# Altium footprint library Linear_Voltage_Regulator.PcbLib: 5 footprints
Each footprint in its own frame and in the unit in brackets; x right, y up, seen from the top. Pads: shape width x height; smd on the part's side, far side on the other; paste and mask are expansions set on the pad; w line width, h text height; cw(c..) or ccw(c..) is an arc to the next point about the centre after c.
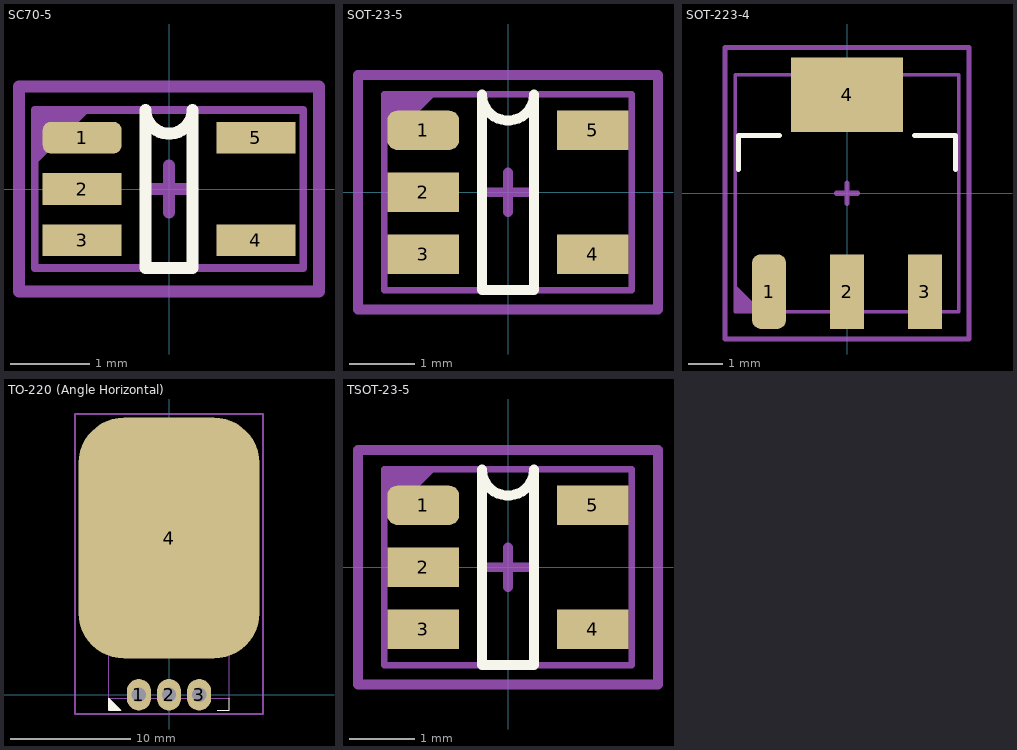
[diagram p0: the footprints below, top view; thin cyan lines are the x and y axes]

## SC70-5 [mm]
pads (5):
  rrect50% 1x0.4 smd: 1(-1.1,0.65)
  rect 1x0.4 smd: 2(-1.1,0) 3(-1.1,-0.65) 4(1.1,-0.65) 5(1.1,0.65)
Top Overlay:
  lines w0.153: -0.3,-1 -0.3,1 ccw(c0,1) 0.3,1 0.3,-1 -0.3,-1
Top Assembly:
  region: -1.7,1 -1.7,0.3 -1,1
  lines w0.1: -1.7,-1 -1.7,1 1.7,1 1.7,-1 -1.7,-1
  text "'.Designator'" at -4.532,-0.333 h0.8
Top Courtyard:
  lines w0.153: -0.3,0 0.3,0 ; 0,-0.3 0,0.3 ; -1.9,-1.3 -1.9,1.3 1.9,1.3 1.9,-1.3 -1.9,-1.3
3D body "User Library-SC70-5-1.step": height 0.95, standoff 0, extent -1.05,-1 1.05,1

## SOT-23-5 [mm]
pads (5):
  rrect50% 1.1x0.6 smd mask+0.05: 1(-1.3,0.95)
  rect 1.1x0.6 smd mask+0.05: 2(-1.3,0) 3(-1.3,-0.95) 4(1.3,-0.95) 5(1.3,0.95)
Top Overlay:
  lines w0.153: -0.4,-1.5 0.4,-1.5 0.4,1.5 cw(c0,1.5) -0.4,1.5 -0.4,-1.5
Top Assembly:
  region: -1.9,1.5 -1.9,0.7 -1.1,1.5
  lines w0.1: -1.9,-1.5 -1.9,1.5 1.9,1.5 1.9,-1.5 -1.9,-1.5
  text "'.Designator'" at -4.532,-0.333 h0.8
Top Courtyard:
  lines w0.153: -0.3,0 0.3,0 ; 0,-0.3 0,0.3 ; -2.3,-1.8 2.3,-1.8 2.3,1.8 -2.3,1.8 -2.3,-1.8
3D body "CircuitWorks-SOT-23-5.step": height 1.1, standoff 0, extent -1.25,-1.5 1.25,1.5

## SOT-223-4 [mm]
pads (4):
  rrect50% 1x2.2 smd: 1(-2.3,-2.9)
  rect 1x2.2 smd: 2(0,-2.9) 3(2.3,-2.9)
  rect 3.3x2.2 smd: 4(0,2.9)
Top Overlay:
  lines w0.153: -3.2,0.7 -3.2,1.7 -2,1.7 ; 2,1.7 3.2,1.7 3.2,0.7
Top Assembly:
  region: -3.3,-3.5 -2.5,-3.5 -3.3,-2.7
  lines w0.1: -3.3,-3.5 -3.3,3.5 3.3,3.5 3.3,-3.5 -3.3,-3.5
  text "'.Designator'" at -4.532,-0.233 h0.8
Top Courtyard:
  lines w0.153: -0.3,0 0.3,0 ; 0,-0.3 0,0.3 ; -3.6,-4.3 3.6,-4.3 3.6,4.3 -3.6,4.3 -3.6,-4.3
3D body "ALSRobot-SOT-223.step": height 1.64, standoff -0.01, extent -3.25,-3.5 3.25,3.5

## TO-220 (Angle Horizontal) [mm]
pads (4):
  oval 2x2.6 hole 1.2: 1(-2.5,0) 2(0,0) 3(2.5,0)
  rrect50% 15x20 smd: 4(0,13)
Top Overlay:
  region: -5,-0.3 -5,-1.3 -4,-1.3
  lines w0.1: 4,-1.3 5,-1.3 5,-0.3 ; -5,-1.3 -4,-1.3 -5,-0.3 -5,-1.3
Top Assembly:
  region: -5,20 -5,18.2 -3.2,20
  lines w0.1: -5,-0.3 -5,20 5,20 5,-0.3 -5,-0.3
  text "'.Designator'" at -4.532,12.767 h0.8
Top Courtyard:
  lines w0.153: -0.3,0 0.3,0 ; 0,-0.3 0,0.3 ; -7.8,-1.6 7.8,-1.6 7.8,23.3 -7.8,23.3 -7.8,-1.6
3D body "User Library-TO220-B-H Full.step": height 4.45, standoff -7.18, extent -4.95,-0.263 4.95,19.95

## TSOT-23-5 [mm]
pads (5):
  rrect50% 1.1x0.6 smd mask+0.05: 1(-1.3,0.95)
  rect 1.1x0.6 smd mask+0.05: 2(-1.3,0) 3(-1.3,-0.95) 4(1.3,-0.95) 5(1.3,0.95)
Top Overlay:
  lines w0.153: -0.4,-1.5 -0.4,1.5 ccw(c0,1.5) 0.4,1.5 0.4,-1.5 -0.4,-1.5
Top Assembly:
  region: -1.9,1.5 -1.9,0.7 -1.1,1.5
  lines w0.1: -1.9,-1.5 1.9,-1.5 1.9,1.5 -1.9,1.5 -1.9,-1.5
  text "'.Designator'" at -4.532,-0.333 h0.8
Top Courtyard:
  lines w0.153: -0.3,0 0.3,0 ; 0,-0.3 0,0.3 ; -2.3,-1.8 -2.3,1.8 2.3,1.8 2.3,-1.8 -2.3,-1.8
3D body "CircuitWorks-SOT-23-5.step": height 1.1, standoff 0, extent -1.25,-1.5 1.25,1.5